# EAGLE library part LV51135T (library Strawson_Eagle_Lib)
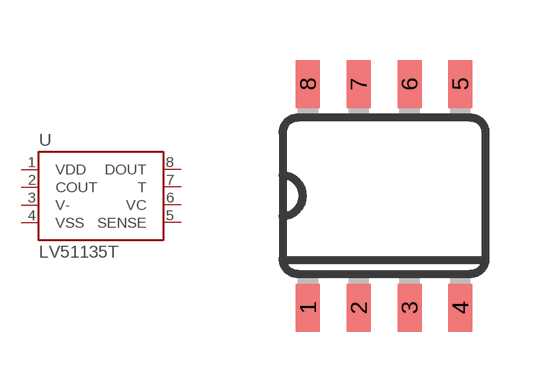
[diagram p10: symbol with the pads of SO08-TIGHT; footprint SO08-TIGHT]

Designator prefix -

## LV51135T  [SO08-TIGHT]
1  VDD
2  COUT
3  V-
4  VSS
5  SENSE
6  VC
7  T
8  DOUT

## Footprint SO08-TIGHT (pad centres in mm)
smd 0.6 x 1.2: 1 -1.905,-2.8; 2 -0.635,-2.8; 3 0.635,-2.8; 4 1.905,-2.8; 5 1.905,2.8; 6 0.635,2.8; 7 -0.635,2.8; 8 -1.905,2.8